# EAGLE library part SN74LVC2G04 (library ASL)
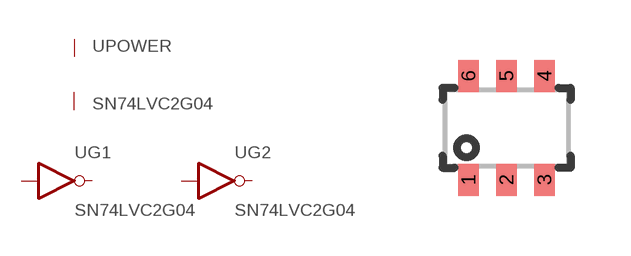
[diagram p19: symbol with the pads of SOT-23-6; footprint SOT-23-6]

Designator prefix U; gates G1=INVERTER G2=INVERTER POWER=INVERTER_POWER

## SN74LVC2G04  [SOT-23-6]
1  G1:I  in
2  POWER:GND  pwr
3  G2:I  in
4  G2:O  out
5  POWER:V+  pwr
6  G1:O  out

## Footprint SOT-23-6 (pad centres in mm)
smd 0.51 x 0.8: 1 -0.95,-1.3; 2 0,-1.3; 3 0.95,-1.3; 4 0.95,1.3; 5 0,1.3; 6 -0.95,1.3